# EAGLE library part 143137180200 (library WL-OCHS)
WL-OCHS DIP-8 Characteristics Very high transmission speed - MHz to Mbit/s range Precise shifting without much delay thanks to fast switching times High insulation voltage VISO = 3750 & 5000 VRMS High immunity to interference (EMC) Applications High-speed digital signal transmission Interface isolation (e.g., UART, SPI, RS-232, RS-485) Switching power supplies and power electronics Industrial controls and automation Microcontroller and embedded systems Details see: www.we-online.com/en/components/products/WL-OCHS-DIP-8 Created by Ella 2026-08-06 2026(C) Würth Elektronik
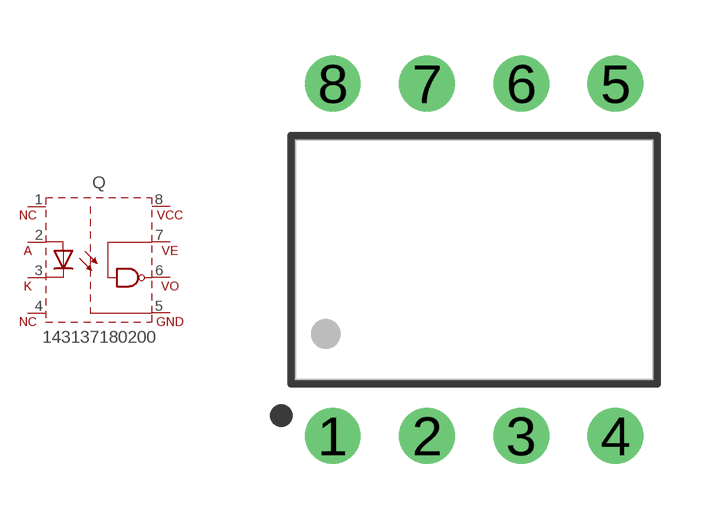
[diagram p4: symbol with the pads of WL-OCHS_DIP8_STANDARD; footprint WL-OCHS_DIP8_STANDARD]

Designator prefix Q

## 143137180200 (CATEGORY: Optocoupler; CMTILH: 5 kV/µsmA; DATASHEET: https://www.we-online.com/redexpert/spec/143137180200?ae; HEIGHT: 3.5mm; ITH-TYP: 3 mA; LENGTH: 6.5mm; MANUFACTURER: Würth Elektronik; MOUNT: THT; MPN: 143137180200; OPERATING-TEMPERATURE: -40 °C up to +85 °C; PACKAGE-TYPE: DIP 8, Standard; TPLH: 41 nsV; VALUE: 143137180200; VISO: 5000 V (RMS); WIDTH: 9.68mm)  [WL-OCHS_DIP8_STANDARD]
1  1  pas
2  2  pas
3  3  pas
4  4  pas
5  5  pas
6  6  pas
7  7  pas
8  8  pas

## Footprint WL-OCHS_DIP8_STANDARD (pad centres in mm)
WL-OCHS Optocoupler High Speed Size: DIP-8 STANDARD, THT, 8pins LXWXH=6.5X9.68X3.5mm
drill 1: 1 -3.81,-4.75; 2 -1.27,-4.75; 3 1.27,-4.75; 4 3.81,-4.75; 5 3.81,4.75; 6 1.27,4.75; 7 -1.27,4.75; 8 -3.81,4.75